# EAGLE library part MATRIXLED7X5 (library OpenMotics)
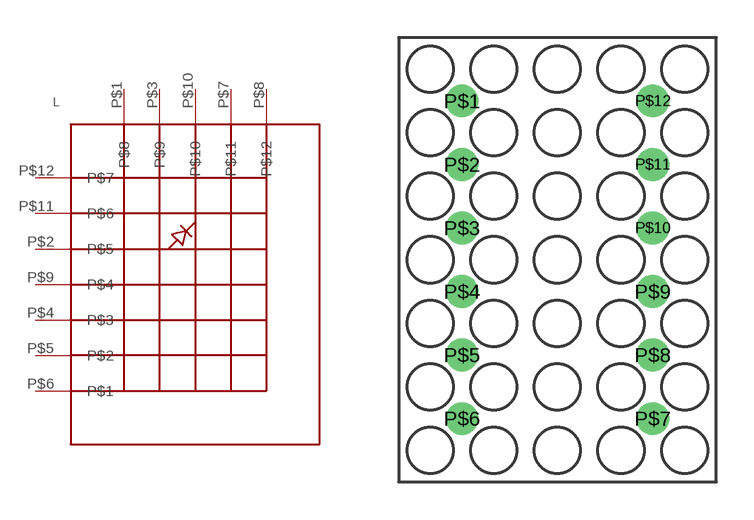
[diagram p11: symbol with the pads of MATRIX; footprint MATRIX]

Designator prefix L

## MATRIXLED7X5  [MATRIX]
P$1  P$8
P$2  P$5
P$3  P$9
P$4  P$3
P$5  P$2
P$6  P$1
P$7  P$11
P$8  P$12
P$9  P$4
P$10  P$10
P$11  P$6
P$12  P$7

## Footprint MATRIX (pad centres in mm)
drill 0.8 round: P$1 2.54,15.24; P$2 2.54,12.7; P$3 2.54,10.16; P$4 2.54,7.62; P$5 2.54,5.08; P$6 2.54,2.54; P$7 10.16,2.54; P$8 10.16,5.08; P$9 10.16,7.62; P$10 10.16,10.16; P$11 10.16,12.7; P$12 10.16,15.24